# Altium schematic symbol library SN74LVC2G132DCUR.Schlib: 1 symbol
Pins are listed as number, name and electrical type; pins without a type are passive.

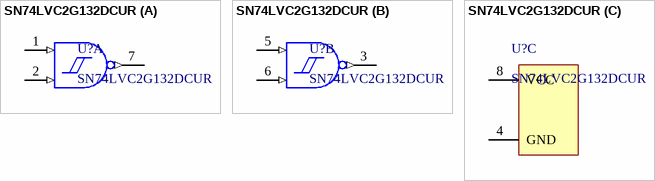
[diagram p0: symbol SN74LVC2G132DCUR]

## SN74LVC2G132DCUR
designator U?
NAND Gate IC 2 Channel Schmitt Trigger 8-VSSOP
part A pins: 1 1A (in), 2 1B (in), 7 1Y (out)
part B pins: 3 2Y (out), 5 2A (in), 6 2B (in)
part C pins: 4 GND (power), 8 VCC (power)